# Altium footprint library LegBoard.PcbLib: 21 footprints (part 1 of 2)
Each footprint in its own frame and in the unit in brackets; x right, y up, seen from the top. Pads: shape width x height; smd on the part's side, far side on the other; paste and mask are expansions set on the pad; w line width, h text height; cw(c..) or ccw(c..) is an arc to the next point about the centre after c.
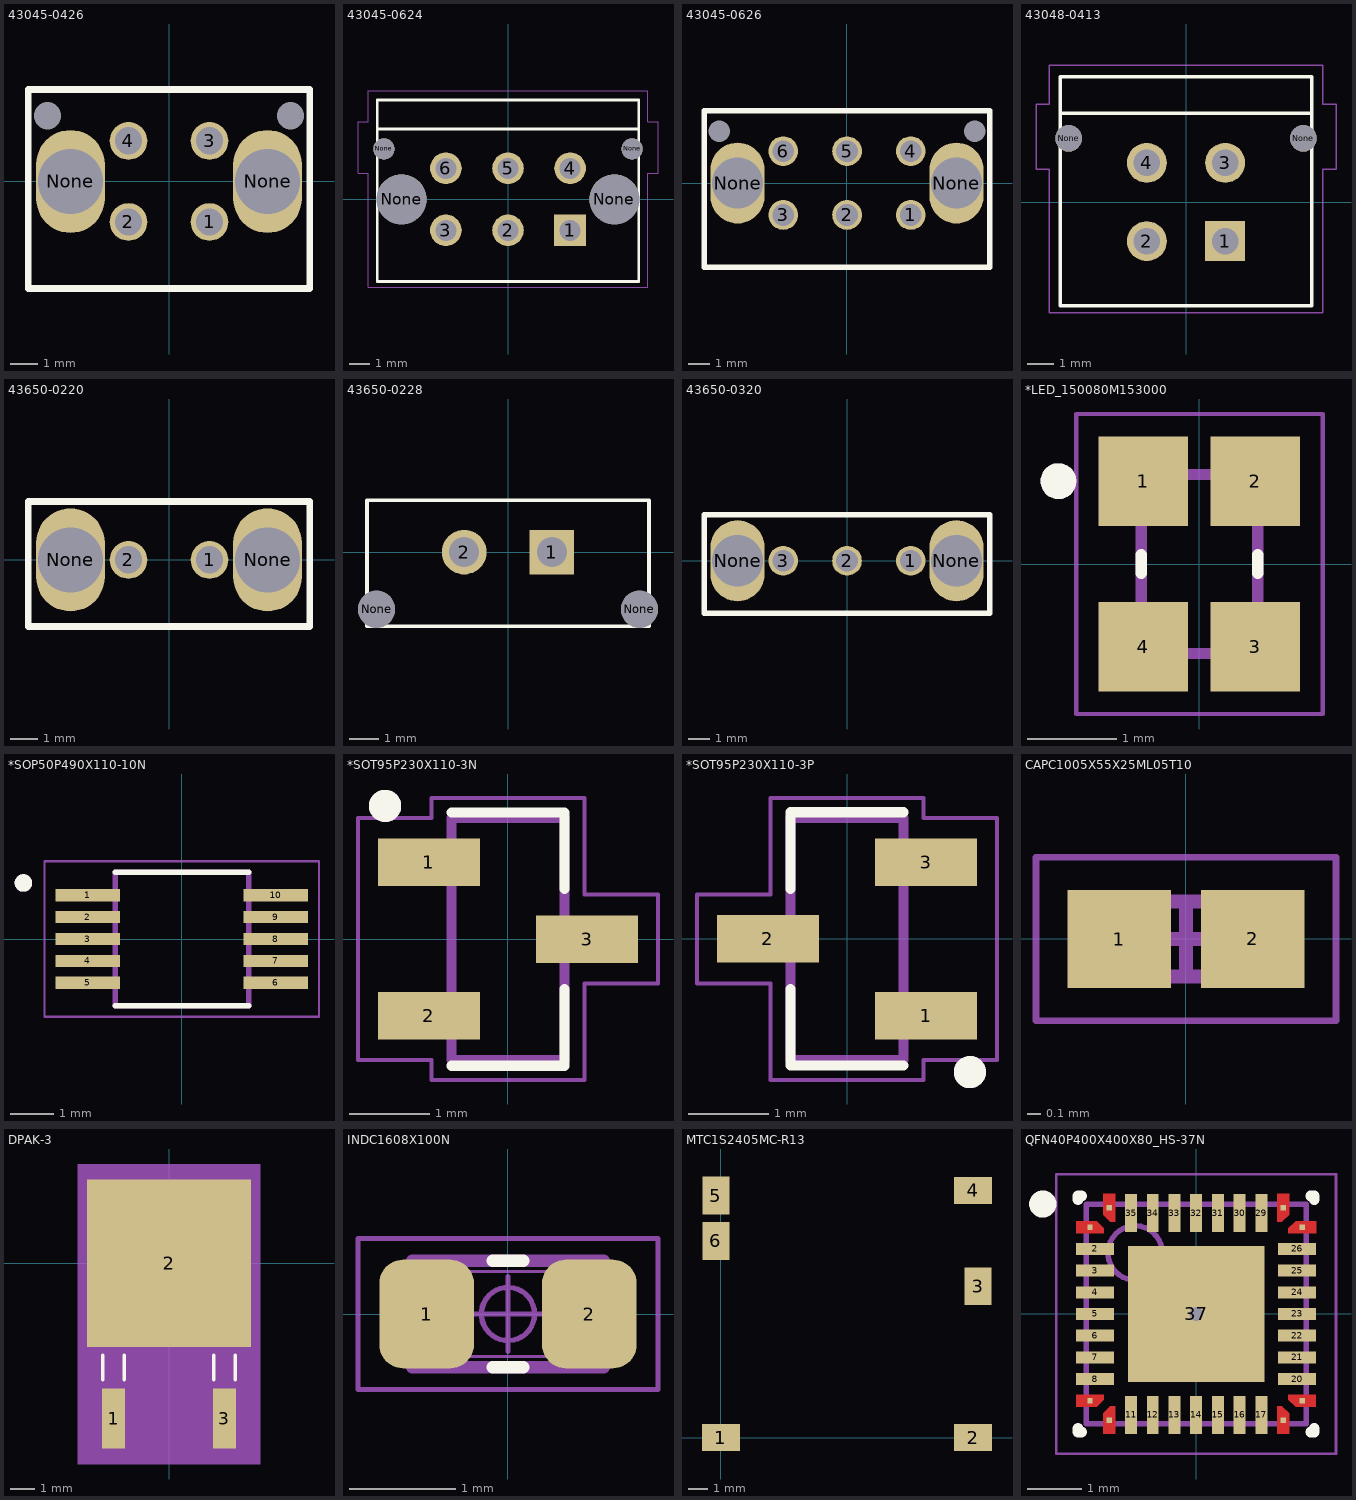
[diagram p0: the footprints below, top view; thin cyan lines are the x and y axes]

## 43045-0426 [mil]
pads (8):
  round 55 hole 40: 1(59,-59.06) 2(-59,-59.06) 3(59,59.06) 4(-59,59.06)
  round 0 hole 40: None(-177,96) None(177,96)
  oval 100x150 hole 95: None(-143.5,0) None(143.5,0)
Top Overlay:
  lines w10: -205,-156 205,-156 205,134 -205,134 -205,-156

## 43045-0624 [mm]
pads (10):
  rect 1.53x1.53 hole 1.02: 1(3,-1.5)
  round 1.53 hole 1.02: 2(0,-1.5) 3(-3,-1.5) 4(3,1.5) 5(0,1.5) 6(-3,1.5)
  round 1.02 hole 1.02 unplated: None(-6,2.44) None(6,2.44)
  round 2.413 hole 2.413 unplated: None(-5.143,0) None(5.143,0)
Top Overlay:
  lines w0.127: -6.325,3.4 6.325,3.4 ; -6.325,3.4 -6.325,-3.97 6.325,-3.97 6.325,3.4 ; -6.325,3.4 -6.325,4.8 6.325,4.8 6.325,3.4
Mechanical 16:
  lines w0.05: -7.25,1.25 -7.25,3.75 -6.75,3.75 -6.75,5.25 6.75,5.25 6.75,3.75 7.25,3.75 7.25,1.25 6.75,1.25 6.75,-4.25 -6.75,-4.25 -6.75,1.25 -7.25,1.25

## 43045-0626 [mil]
height 390
pads (10):
  round 55 hole 40: 1(118.06,-59.06) 2(0.06,-59.06) 3(-117.94,-59.06) 4(118.06,59.06) 5(0.06,59.06) 6(-117.94,59.06)
  round 0 hole 40: None(-236.06,96) None(236.06,96)
  oval 100x150 hole 95: None(-202.56,0) None(202.56,0)
Top Overlay:
  lines w10: -264.06,-156 -264.06,134 264.06,134 264.06,-156 -264.06,-156

## 43048-0413 [mm]
pads (6):
  rect 1.53x1.53 hole 1.02: 1(1.5,-1.5)
  round 1.53 hole 1.02: 2(-1.5,-1.5) 3(1.5,1.5) 4(-1.5,1.5)
  round 1.02 hole 1.02 unplated: None(-4.5,2.44) None(4.5,2.44)
Top Overlay:
  lines w0.127: -4.825,3.4 4.825,3.4 ; -4.825,3.4 -4.825,-3.97 4.825,-3.97 4.825,3.4 ; -4.825,3.4 -4.825,4.8 4.825,4.8 4.825,3.4
Mechanical 16:
  lines w0.05: -5.75,1.25 -5.75,3.75 -5.25,3.75 -5.25,5.25 5.25,5.25 5.25,3.75 5.75,3.75 5.75,1.25 5.25,1.25 5.25,-4.25 -5.25,-4.25 -5.25,1.25 -5.75,1.25

## 43650-0220 [mil]
pads (4):
  round 55 hole 40: 1(59,0) 2(-59,0)
  oval 100x150 hole 95: None(-143.5,0) None(143.5,0)
Top Overlay:
  lines w10: -205,-97 -205,85 205,85 205,-97 -205,-97

## 43650-0228 [mm]
pads (4):
  rect 1.53x1.53 hole 1.02: 1(1.5,0)
  round 1.53 hole 1.02: 2(-1.5,0)
  round 1.27 hole 1.27 unplated: None(-4.496,-1.956) None(4.496,-1.956)
Top Overlay:
  lines w0.127: -4.826,-2.54 -4.826,1.778 4.826,1.778 4.826,-2.54 -4.826,-2.54

## 43650-0320 [mil]
height 390
pads (5):
  round 55 hole 40: 1(118,0) 2(0,0) 3(-118,0)
  oval 100x150 hole 95: None(-202.5,0) None(202.5,0)
Top Overlay:
  lines w10: -264,-97 264,-97 264,85 -264,85 -264,-97

## *LED_150080M153000 [mm]
pads (4):
  rect 1x1 smd: 1(-0.625,0.925) 2(0.625,0.925) 3(0.625,-0.925) 4(-0.625,-0.925)
Top Overlay:
  circle w0.2: c-1.575,0.925 r0.1
  lines w0.127: -0.65,-0.105 -0.65,0.105 ; 0.65,-0.105 0.65,0.105
Mechanical 4:
  circle w0.2: c-1.575,0.925 r0.1
  circle w0.2: c-1.575,0.925 r0.1
  lines w0.127: -0.65,-1 -0.65,1 ; -0.65,-1 0.65,-1 ; -0.65,-1 -0.65,1 ; -0.65,-1 0.65,-1 ; -0.65,1 0.65,1 ; -0.65,1 0.65,1 ; 0.65,-1 0.65,1 ; 0.65,-1 0.65,1
Mechanical 16:
  lines w0.05: -1.375,-1.675 1.375,-1.675 1.375,1.675 -1.375,1.675 -1.375,-1.675

## *SOP50P490X110-10N [mm]
pads (10):
  rect 1.47x0.28 smd: 1(-2.15,1) 2(-2.15,0.5) 3(-2.15,0) 4(-2.15,-0.5) 5(-2.15,-1) 6(2.15,-1) 7(2.15,-0.5) 8(2.15,0) 9(2.15,0.5) 10(2.15,1)
Top Overlay:
  circle w0.2: c-3.62,1.28 r0.1
  lines w0.127: -1.525,-1.525 1.525,-1.525 ; -1.525,1.525 1.525,1.525
Mechanical 4:
  circle w0.2: c-3.62,1.28 r0.1
  circle w0.2: c-3.62,1.28 r0.1
  lines w0.127: -1.525,-1.525 -1.525,1.525 ; -1.525,-1.525 1.525,-1.525 ; -1.525,-1.525 -1.525,1.525 ; -1.525,-1.525 1.525,-1.525 ; -1.525,1.525 1.525,1.525 ; -1.525,1.525 1.525,1.525 ; 1.525,-1.525 1.525,1.525 ; 1.525,-1.525 1.525,1.525
Mechanical 16:
  lines w0.05: -3.135,-1.775 -3.135,1.775 3.135,1.775 3.135,-1.775 -3.135,-1.775

## *SOT95P230X110-3N [mm]
pads (3):
  rect 1.26x0.59 smd: 1(-0.98,0.95) 2(-0.98,-0.95) 3(0.98,0)
Top Overlay:
  circle w0.2: c-1.524,1.651 r0.1
  lines w0.127: -0.7,-1.57 0.7,-1.57 0.7,-0.62 ; -0.7,1.57 0.7,1.57 0.7,0.62
Mechanical 4:
  circle w0.2: c-1.524,1.651 r0.1
  circle w0.2: c-1.524,1.651 r0.1
  lines w0.127: -0.7,-1.5 0.7,-1.5 ; -0.7,-1.5 -0.7,1.5 ; -0.7,-1.5 0.7,-1.5 ; -0.7,-1.5 -0.7,1.5 ; -0.7,1.5 0.7,1.5 ; -0.7,1.5 0.7,1.5 ; 0.7,-1.5 0.7,1.5 ; 0.7,-1.5 0.7,1.5
Mechanical 15:
  lines w0.05: -1.86,-1.5 -0.95,-1.5 -0.95,-1.75 0.95,-1.75 0.95,-0.55 1.86,-0.55 1.86,0.55 0.95,0.55 0.95,1.75 -0.95,1.75 -0.95,1.5 -1.86,1.5 -1.86,-1.5
3D body "MMBTH10LT3G--3DModel-STEP-56544.STEP": height 1.11, standoff 0, extent -1.2,-1.45 1.2,1.45

## *SOT95P230X110-3P [mm]
pads (3):
  rect 1.26x0.59 smd: 1(0.98,-0.95) 2(-0.98,0) 3(0.98,0.95)
Top Overlay:
  circle w0.2: c1.524,-1.651 r0.1
  lines w0.127: -0.7,-0.62 -0.7,-1.57 0.7,-1.57 ; -0.7,0.62 -0.7,1.57 0.7,1.57
Mechanical 4:
  circle w0.2: c1.524,-1.651 r0.1
  circle w0.2: c1.524,-1.651 r0.1
  lines w0.127: -0.7,-1.5 0.7,-1.5 ; -0.7,-1.5 -0.7,1.5 ; -0.7,-1.5 0.7,-1.5 ; -0.7,-1.5 -0.7,1.5 ; -0.7,1.5 0.7,1.5 ; -0.7,1.5 0.7,1.5 ; 0.7,-1.5 0.7,1.5 ; 0.7,-1.5 0.7,1.5
Mechanical 15:
  lines w0.05: -1.86,-0.55 -1.86,0.55 -0.95,0.55 -0.95,1.75 0.95,1.75 0.95,1.5 1.86,1.5 1.86,-1.5 0.95,-1.5 0.95,-1.75 -0.95,-1.75 -0.95,-0.55 -1.86,-0.55
3D body "MMBTH10LT3G--3DModel-STEP-56544.STEP": height 1.11, standoff 0, extent -1.2,-1.45 1.2,1.45

## CAPC1005X55X25ML05T10 [mm] "Chip Capacitor, 2-Leads, Body 1.00x0.50mm, IPC Low Density"
height 0.55
pads (2):
  rect 0.76x0.72 smd: 1(-0.49,0) 2(0.49,0)
Mechanical 13:
  lines w0.1: -0.525,-0.275 0.525,-0.275 0.525,0.275 -0.525,0.275 -0.525,-0.275
Mechanical 15:
  lines w0.05: -1.1,-0.6 1.1,-0.6 1.1,0.6 -1.1,0.6 -1.1,-0.6
  lines w0.1: -0.275,0 0.275,0 ; 0,-0.275 0,0.275
3D body: height 0.55, standoff 0, extent 0.275,-0.275 0.525,0.275
3D body: height 0.55, standoff 0, extent -0.525,-0.275 -0.275,0.275
3D body: height 0.55, standoff 0, extent -0.275,-0.275 0.275,0.275

## DPAK-3 [mil]
pads (3):
  rect 37x98 smd: 1(-90.16,-252.5) 3(90.16,-252.5)
  rect 267x273 smd: 2(0,0)
Top Overlay:
  lines w6: -107.66,-189.5 -107.66,-149.6 ; -72.66,-189.5 -72.66,-149.6 ; 72.66,-189.5 72.66,-149.6 ; 107.66,-189.5 107.66,-149.6
Mechanical 5:
  region: -148.5,161.5 148.5,161.5 148.5,-326.5 -148.5,-326.5
Mechanical 13:
  lines w1: -16.5,-122.5 -16.5,-155.5 16.5,-155.5 16.5,-122.5 ; -132.5,-122.5 132.5,-122.5 132.5,122.5 -132.5,122.5 -132.5,-122.5 ; -107.66,-287.5 -107.66,-122.5 -72.66,-122.5 -72.66,-287.5 -107.66,-287.5 ; 72.66,-287.5 72.66,-122.5 107.66,-122.5 107.66,-287.5 72.66,-287.5
  text "*" at -102.66,-137.5 h50
Mechanical 15:
  region: -117.66,-146.5 -144.5,-146.5 -144.5,146.5 144.5,146.5 144.5,-146.5 117.66,-146.5 117.66,-311.5 62.66,-311.5 62.66,-213.5 -62.66,-213.5 -62.66,-311.5 -117.66,-311.5
  lines w6: -144.5,-146.5 -144.5,146.5 144.5,146.5 144.5,-146.5 117.66,-146.5 117.66,-311.5 62.66,-311.5 62.66,-213.5 -62.66,-213.5 -62.66,-311.5 -117.66,-311.5 -117.66,-146.5 -144.5,-146.5
3D body: height 10, standoff 0, extent 0,0 10,10

## INDC1608X100N [mm] "Inductor, Chip; 1.60 mm L X 0.80 mm W X 1.00 mm H body"
height 1
pads (2):
  rrect49% 0.89x1.02 smd: 1(-0.765,0) 2(0.765,0)
Top Overlay:
  lines w0.12: -0.14,-0.5 0.14,-0.5 ; -0.14,0.5 0.14,0.5
Mechanical 13:
  lines w0.025: -0.8,-0.4 -0.5,-0.4 -0.5,0.4 -0.8,0.4 ; -0.8,-0.4 -0.8,0.4 ; -0.8,-0.4 -0.8,0.4 ; -0.8,-0.4 0.8,-0.4 ; -0.8,0.4 0.8,0.4 ; 0.8,-0.4 0.8,0.4 ; 0.8,-0.4 0.5,-0.4 0.5,0.4 0.8,0.4 ; 0.8,-0.4 0.8,0.4
  text ".Comment" at -0.381,-0.178 h0.6
  text ".Designator" at -0.381,0.051 h0.6
Mechanical 15:
  circle w0.05: c0,0 r0.25
  lines w0.05: -0.35,0 0.35,0 ; 0,-0.35 0,0.35 ; -1.41,-0.71 -1.41,0.71 1.41,0.71 1.41,-0.71 -1.41,-0.71
  lines w0.12: -0.9,-0.5 -0.9,0.5 0.9,0.5 0.9,-0.5 -0.9,-0.5
3D body "INDC1608X100N.STEP": height 1, standoff 0, extent -0.8,-0.4 0.8,0.4

## MTC1S2405MC-R13 [mil]
pads (6):
  rect 75x54 smd: 1(0,0) 2(500,0) 4(500,490)
  rect 54x75 smd: 3(510,300) 5(-10,480) 6(-10,390)
3D body: height 442, standoff 0, extent -41.5,-31 541.5,521.5

## QFN40P400X400X80_HS-37N [mm] "QFN, 36-Leads, Body 4.00x4.00mm, Pitch 0.40mm, Thermal Pad 3.46x3.46mm, IPC Medium Density"
height 0.8
pads (37):
  rect 0.1x0.1 smd: 1(-1.955,1.6) 9(-1.955,-1.6) 10(-1.6,-1.955) 18(1.6,-1.955) 19(1.955,-1.6) 27(1.955,1.6) 28(1.6,1.955) 36(-1.6,1.955)
  rect 0.7x0.22 smd: 2(-1.86,1.2) 3(-1.86,0.8) 4(-1.86,0.4) 5(-1.86,0) 6(-1.86,-0.4) 7(-1.86,-0.8) 8(-1.86,-1.2) 20(1.86,-1.2) 21(1.86,-0.8) 22(1.86,-0.4) 23(1.86,0) 24(1.86,0.4) 25(1.86,0.8) 26(1.86,1.2)
  rect 0.22x0.7 smd: 11(-1.2,-1.86) 12(-0.8,-1.86) 13(-0.4,-1.86) 14(0,-1.86) 15(0.4,-1.86) 16(0.8,-1.86) 17(1.2,-1.86) 29(1.2,1.86) 30(0.8,1.86) 31(0.4,1.86) 32(0,1.86) 33(-0.4,1.86) 34(-0.8,1.86) 35(-1.2,1.86)
  rect 2.51x2.51 smd: 37(0,0)
via 0,0 diameter 0.5 hole 0.254
Top Layer:
  region: 1.49,1.7 1.49,2.21 1.71,2.21 1.71,1.83 1.58,1.7
  region: -2.21,1.49 -1.7,1.49 -1.7,1.58 -1.83,1.71 -2.21,1.71
  region: -1.71,1.83 -1.71,2.21 -1.49,2.21 -1.49,1.7 -1.58,1.7
  region: -2.21,-1.71 -2.21,-1.49 -1.7,-1.49 -1.7,-1.58 -1.83,-1.71
  region: -1.71,-2.21 -1.49,-2.21 -1.49,-1.7 -1.58,-1.7 -1.71,-1.83
  region: 1.49,-2.21 1.71,-2.21 1.71,-1.83 1.58,-1.7 1.49,-1.7
  region: 1.7,-1.58 1.7,-1.49 2.2,-1.49 2.2,-1.71 1.83,-1.71
  region: 1.7,1.49 1.7,1.58 1.83,1.71 2.21,1.71 2.21,1.49
Top Overlay:
  circle w0.25: c-2.825,2.025 r0.125
  lines w0.2: -2.175,-2.11 -2.175,-2.175 -2.11,-2.175 ; -2.175,2.11 -2.175,2.175 -2.11,2.175 ; 2.11,-2.175 2.175,-2.175 2.175,-2.11 ; 2.11,2.175 2.175,2.175 2.175,2.11
Top Solder:
  rectangle: -2.31,1.41 -1.41,1.85
  rectangle: -1.85,1.43 -1.41,2.31
  rectangle: -2.31,-1.84 -1.41,-1.41
  rectangle: -1.84,-2.31 -1.41,-1.41
  rectangle: 1.41,-2.31 1.84,-1.41
  rectangle: 1.41,-1.84 2.31,-1.41
  rectangle: 1.41,1.41 1.84,2.31
  rectangle: 1.41,1.41 2.31,1.84
  region: -2.31,1.41
Mechanical 13:
  circle w0.1: c-1.125,1.125 r0.5
  lines w0.1: -2.025,-2.025 -2.025,2.025 2.025,2.025 2.025,-2.025 -2.025,-2.025
Mechanical 15:
  lines w0.05: -2.575,-2.575 -2.575,2.575 2.575,2.575 2.575,-2.575 -2.575,-2.575
  lines w0.1: -0.5,0 0.5,0 ; 0,-0.5 0,0.5
3D body: height 0.8, standoff 0.05, extent -2.025,-2.025 2.025,2.025